# Altium footprint library MPU-6050.PcbLib: 3 footprints
Each footprint in its own frame and in the unit in brackets; x right, y up, seen from the top. Pads: shape width x height; smd on the part's side, far side on the other; paste and mask are expansions set on the pad; w line width, h text height; cw(c..) or ccw(c..) is an arc to the next point about the centre after c.
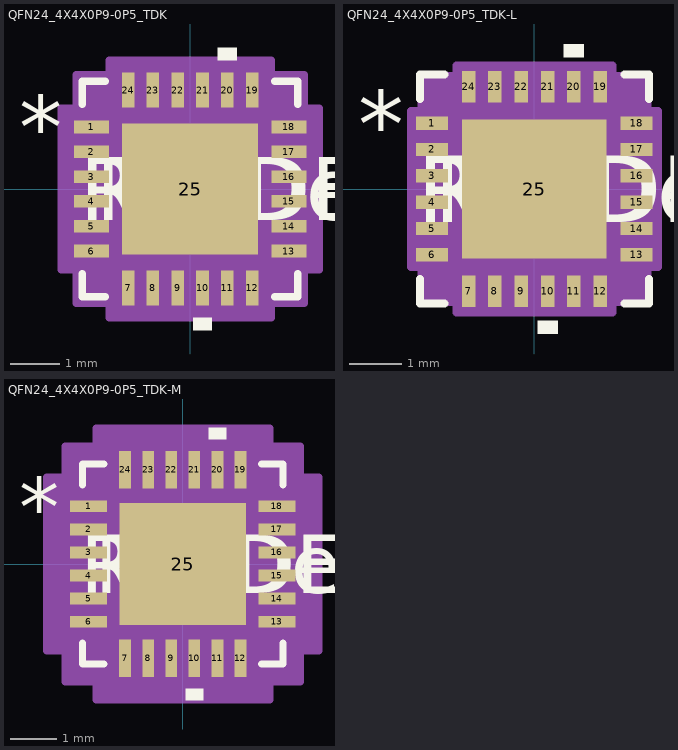
[diagram p0: the footprints below, top view; thin cyan lines are the x and y axes]

## QFN24_4X4X0P9-0P5_TDK [mil]
pads (25):
  rect 27.81x10.03 smd paste+0 mask+0: 1(-78.41,49.23) 2(-78.41,29.54) 3(-78.41,9.85) 4(-78.41,-9.85) 5(-78.41,-29.54) 6(-78.41,-49.23) 13(78.41,-49.23) 14(78.41,-29.54) 15(78.41,-9.85) 16(78.41,9.85) 17(78.41,29.54) 18(78.41,49.23)
  rect 10.03x27.81 smd paste+0 mask+0: 7(-49.23,-78.41) 8(-29.54,-78.41) 9(-9.85,-78.41) 10(9.85,-78.41) 11(29.54,-78.41) 12(49.23,-78.41) 19(49.23,78.41) 20(29.54,78.41) 21(9.85,78.41) 22(-9.85,78.41) 23(-29.54,78.41) 24(-49.23,78.41)
  rect 108x104 smd paste+0 mask+0: 25(0,0)
Top Overlay:
  region: 17.34,-102.31 2.35,-102.31 2.35,-112.31 17.34,-112.31
  region: 37.03,102.31 22.04,102.31 22.04,112.31 37.03,112.31
  lines w6: -85.5,-67.34 -85.5,-85.5 -67.34,-85.5 ; -85.5,67.34 -85.5,85.5 -67.34,85.5 ; 67.34,-85.5 85.5,-85.5 85.5,-67.34 ; 67.34,85.5 85.5,85.5 85.5,67.34
  text "*" at -135.81,24.23 h50
  text "RefDes" at -75,-25 h50
  text "REFDES" at -87.5,-25 h50
Mechanical 13:
  lines w1: -80.5,30.5 -30.5,80.5 ; -80.5,-55.23 -80.5,-43.23 ; -80.5,-55.23 -80.5,-43.23 ; -80.5,-55.23 -80.5,-55.23 ; -80.5,-43.23 -80.5,-43.23 ; -80.5,-35.53 -80.5,-23.54 ; -80.5,-35.53 -80.5,-23.54 ; -80.5,-35.53 -80.5,-35.53 ; -80.5,-23.54 -80.5,-23.54 ; -80.5,-15.85 -80.5,-3.85 ; -80.5,-15.85 -80.5,-3.85 ; -80.5,-15.85 -80.5,-15.85 ; -80.5,-3.85 -80.5,-3.85 ; -80.5,3.85 -80.5,15.85 ; -80.5,3.85 -80.5,15.85 ; -80.5,3.85 -80.5,3.85 ; -80.5,15.85 -80.5,15.85 ; -80.5,23.54 -80.5,35.53 ; -80.5,23.54 -80.5,35.53 ; -80.5,23.54 -80.5,23.54 ; -80.5,35.53 -80.5,35.53 ; -80.5,43.23 -80.5,55.23 ; -80.5,43.23 -80.5,55.23 ; -80.5,43.23 -80.5,43.23 ; -80.5,55.23 -80.5,55.23 ; -55.23,-80.5 -43.23,-80.5 ; -55.23,-80.5 -55.23,-80.5 ; -55.23,-80.5 -43.23,-80.5 ; -55.23,80.5 -43.23,80.5 ; -55.23,80.5 -43.23,80.5 ; -55.23,80.5 -55.23,80.5 ; -43.23,-80.5 -43.23,-80.5 ; -43.23,80.5 -43.23,80.5 ; -35.53,-80.5 -23.54,-80.5 ; -35.53,-80.5 -35.53,-80.5 ; -35.53,-80.5 -23.54,-80.5 ; -35.53,80.5 -23.54,80.5 ; -35.53,80.5 -23.54,80.5 ; -35.53,80.5 -35.53,80.5 ; -23.54,-80.5 -23.54,-80.5 ; -23.54,80.5 -23.54,80.5 ; -15.85,-80.5 -3.85,-80.5 ; -15.85,-80.5 -15.85,-80.5 ; -15.85,-80.5 -3.85,-80.5 ; -15.85,80.5 -3.85,80.5 ; -15.85,80.5 -3.85,80.5 ; -15.85,80.5 -15.85,80.5 ; -3.85,-80.5 -3.85,-80.5 ; -3.85,80.5 -3.85,80.5 ; 3.85,-80.5 15.85,-80.5 ; 3.85,-80.5 3.85,-80.5 ; 3.85,-80.5 15.85,-80.5 ; 3.85,80.5 15.85,80.5 ; 3.85,80.5 15.85,80.5 ; 3.85,80.5 3.85,80.5 ; 15.85,-80.5 15.85,-80.5 ; 15.85,80.5 15.85,80.5 ; 23.54,-80.5 35.53,-80.5 ; 23.54,-80.5 23.54,-80.5 ; 23.54,-80.5 35.53,-80.5 ; 23.54,80.5 35.53,80.5 ; 23.54,80.5 35.53,80.5 ; 23.54,80.5 23.54,80.5 ; 35.53,-80.5 35.53,-80.5 ; 35.53,80.5 35.53,80.5 ; 43.23,-80.5 55.23,-80.5 ; 43.23,-80.5 43.23,-80.5 ; 43.23,-80.5 55.23,-80.5 ; 43.23,80.5 55.23,80.5 ; 43.23,80.5 55.23,80.5 ; 43.23,80.5 43.23,80.5 ; 55.23,-80.5 55.23,-80.5 ; 55.23,80.5 55.23,80.5 ; 80.5,-55.23 80.5,-43.23 ; 80.5,-55.23 80.5,-55.23 ; 80.5,-55.23 80.5,-43.23 ; 80.5,-43.23 80.5,-43.23 ; 80.5,-35.53 80.5,-23.54 ; 80.5,-35.53 80.5,-35.53 ; 80.5,-35.53 80.5,-23.54 ; 80.5,-23.54 80.5,-23.54 ; 80.5,-15.85 80.5,-3.85 ; 80.5,-15.85 80.5,-15.85 ; 80.5,-15.85 80.5,-3.85 ; 80.5,-3.85 80.5,-3.85 ; 80.5,3.85 80.5,15.85 ; 80.5,3.85 80.5,3.85 ; 80.5,3.85 80.5,15.85 ; 80.5,15.85 80.5,15.85 ; 80.5,23.54 80.5,35.53 ; 80.5,23.54 80.5,23.54 ; 80.5,23.54 80.5,35.53 ; 80.5,35.53 80.5,35.53 ; 80.5,43.23 80.5,55.23 ; 80.5,43.23 80.5,43.23 ; 80.5,43.23 80.5,55.23 ; 80.5,55.23 80.5,55.23 ; -80.5,-80.5 80.5,-80.5 80.5,80.5 -80.5,80.5 -80.5,-80.5
  text "*" at -46,24.23 h50
  text "RefDes2" at -87.5,-25 h50
Mechanical 15:
  region: -64.24,-90.5 -90.5,-90.5 -90.5,-64.24 -102.31,-64.24 -102.31,64.24 -90.5,64.24 -90.5,90.5 -64.24,90.5 -64.24,102.31 64.24,102.31 64.24,90.5 90.5,90.5 90.5,64.24 102.31,64.24 102.31,-64.24 90.5,-64.24 90.5,-90.5 64.24,-90.5 64.24,-102.31 -64.24,-102.31
  lines w6: -102.31,-64.24 -90.5,-64.24 -90.5,-90.5 -64.24,-90.5 -64.24,-102.31 64.24,-102.31 64.24,-90.5 90.5,-90.5 90.5,-64.24 102.31,-64.24 102.31,64.24 90.5,64.24 90.5,90.5 64.24,90.5 64.24,102.31 -64.24,102.31 -64.24,90.5 -90.5,90.5 -90.5,64.24 -102.31,64.24 -102.31,-64.24
3D body "QFN24_4X4X0P9-0P5_TDK.step": height 37.09, standoff 0, extent -80.51,-80.51 80.51,80.51

## QFN24_4X4X0P9-0P5_TDK-L [mil]
pads (25):
  rect 23.87x10.03 smd paste+0 mask+0: 1(-76.44,49.23) 2(-76.44,29.54) 3(-76.44,9.85) 4(-76.44,-9.85) 5(-76.44,-29.54) 6(-76.44,-49.23) 13(76.44,-49.23) 14(76.44,-29.54) 15(76.44,-9.85) 16(76.44,9.85) 17(76.44,29.54) 18(76.44,49.23)
  rect 10.03x23.87 smd paste+0 mask+0: 7(-49.23,-76.44) 8(-29.54,-76.44) 9(-9.85,-76.44) 10(9.85,-76.44) 11(29.54,-76.44) 12(49.23,-76.44) 19(49.23,76.44) 20(29.54,76.44) 21(9.85,76.44) 22(-9.85,76.44) 23(-29.54,76.44) 24(-49.23,76.44)
  rect 108x104 smd paste+0 mask+0: 25(0,0)
Top Overlay:
  region: 17.34,-98.37 2.35,-98.37 2.35,-108.37 17.34,-108.37
  region: 37.03,98.37 22.04,98.37 22.04,108.37 37.03,108.37
  lines w6: -85.5,-67.34 -85.5,-85.5 -67.34,-85.5 ; -85.5,67.34 -85.5,85.5 -67.34,85.5 ; 67.34,-85.5 85.5,-85.5 85.5,-67.34 ; 67.34,85.5 85.5,85.5 85.5,67.34
  text "*" at -131.87,24.23 h50
  text "RefDes" at -75,-25 h50
  text "REFDES" at -87.5,-25 h50
Mechanical 13:
  lines w1: -80.5,30.5 -30.5,80.5 ; -80.5,-55.23 -80.5,-43.23 ; -80.5,-55.23 -80.5,-43.23 ; -80.5,-55.23 -80.5,-55.23 ; -80.5,-43.23 -80.5,-43.23 ; -80.5,-35.53 -80.5,-23.54 ; -80.5,-35.53 -80.5,-23.54 ; -80.5,-35.53 -80.5,-35.53 ; -80.5,-23.54 -80.5,-23.54 ; -80.5,-15.85 -80.5,-3.85 ; -80.5,-15.85 -80.5,-3.85 ; -80.5,-15.85 -80.5,-15.85 ; -80.5,-3.85 -80.5,-3.85 ; -80.5,3.85 -80.5,15.85 ; -80.5,3.85 -80.5,15.85 ; -80.5,3.85 -80.5,3.85 ; -80.5,15.85 -80.5,15.85 ; -80.5,23.54 -80.5,35.53 ; -80.5,23.54 -80.5,35.53 ; -80.5,23.54 -80.5,23.54 ; -80.5,35.53 -80.5,35.53 ; -80.5,43.23 -80.5,55.23 ; -80.5,43.23 -80.5,55.23 ; -80.5,43.23 -80.5,43.23 ; -80.5,55.23 -80.5,55.23 ; -55.23,-80.5 -43.23,-80.5 ; -55.23,-80.5 -55.23,-80.5 ; -55.23,-80.5 -43.23,-80.5 ; -55.23,80.5 -43.23,80.5 ; -55.23,80.5 -43.23,80.5 ; -55.23,80.5 -55.23,80.5 ; -43.23,-80.5 -43.23,-80.5 ; -43.23,80.5 -43.23,80.5 ; -35.53,-80.5 -23.54,-80.5 ; -35.53,-80.5 -35.53,-80.5 ; -35.53,-80.5 -23.54,-80.5 ; -35.53,80.5 -23.54,80.5 ; -35.53,80.5 -23.54,80.5 ; -35.53,80.5 -35.53,80.5 ; -23.54,-80.5 -23.54,-80.5 ; -23.54,80.5 -23.54,80.5 ; -15.85,-80.5 -3.85,-80.5 ; -15.85,-80.5 -15.85,-80.5 ; -15.85,-80.5 -3.85,-80.5 ; -15.85,80.5 -3.85,80.5 ; -15.85,80.5 -3.85,80.5 ; -15.85,80.5 -15.85,80.5 ; -3.85,-80.5 -3.85,-80.5 ; -3.85,80.5 -3.85,80.5 ; 3.85,-80.5 15.85,-80.5 ; 3.85,-80.5 3.85,-80.5 ; 3.85,-80.5 15.85,-80.5 ; 3.85,80.5 15.85,80.5 ; 3.85,80.5 15.85,80.5 ; 3.85,80.5 3.85,80.5 ; 15.85,-80.5 15.85,-80.5 ; 15.85,80.5 15.85,80.5 ; 23.54,-80.5 35.53,-80.5 ; 23.54,-80.5 23.54,-80.5 ; 23.54,-80.5 35.53,-80.5 ; 23.54,80.5 35.53,80.5 ; 23.54,80.5 35.53,80.5 ; 23.54,80.5 23.54,80.5 ; 35.53,-80.5 35.53,-80.5 ; 35.53,80.5 35.53,80.5 ; 43.23,-80.5 55.23,-80.5 ; 43.23,-80.5 43.23,-80.5 ; 43.23,-80.5 55.23,-80.5 ; 43.23,80.5 55.23,80.5 ; 43.23,80.5 55.23,80.5 ; 43.23,80.5 43.23,80.5 ; 55.23,-80.5 55.23,-80.5 ; 55.23,80.5 55.23,80.5 ; 80.5,-55.23 80.5,-43.23 ; 80.5,-55.23 80.5,-55.23 ; 80.5,-55.23 80.5,-43.23 ; 80.5,-43.23 80.5,-43.23 ; 80.5,-35.53 80.5,-23.54 ; 80.5,-35.53 80.5,-35.53 ; 80.5,-35.53 80.5,-23.54 ; 80.5,-23.54 80.5,-23.54 ; 80.5,-15.85 80.5,-3.85 ; 80.5,-15.85 80.5,-15.85 ; 80.5,-15.85 80.5,-3.85 ; 80.5,-3.85 80.5,-3.85 ; 80.5,3.85 80.5,15.85 ; 80.5,3.85 80.5,3.85 ; 80.5,3.85 80.5,15.85 ; 80.5,15.85 80.5,15.85 ; 80.5,23.54 80.5,35.53 ; 80.5,23.54 80.5,23.54 ; 80.5,23.54 80.5,35.53 ; 80.5,35.53 80.5,35.53 ; 80.5,43.23 80.5,55.23 ; 80.5,43.23 80.5,43.23 ; 80.5,43.23 80.5,55.23 ; 80.5,55.23 80.5,55.23 ; -80.5,-80.5 80.5,-80.5 80.5,80.5 -80.5,80.5 -80.5,-80.5
  text "*" at -46,24.23 h50
  text "RefDes2" at -87.5,-25 h50
Mechanical 15:
  region: -58.24,-84.5 -84.5,-84.5 -84.5,-58.24 -92.37,-58.24 -92.37,58.24 -84.5,58.24 -84.5,84.5 -58.24,84.5 -58.24,92.37 58.24,92.37 58.24,84.5 84.5,84.5 84.5,58.24 92.37,58.24 92.37,-58.24 84.5,-58.24 84.5,-84.5 58.24,-84.5 58.24,-92.37 -58.24,-92.37
  lines w6: -92.37,-58.24 -84.5,-58.24 -84.5,-84.5 -58.24,-84.5 -58.24,-92.37 58.24,-92.37 58.24,-84.5 84.5,-84.5 84.5,-58.24 92.37,-58.24 92.37,58.24 84.5,58.24 84.5,84.5 58.24,84.5 58.24,92.37 -58.24,92.37 -58.24,84.5 -84.5,84.5 -84.5,58.24 -92.37,58.24 -92.37,-58.24
3D body "QFN24_4X4X0P9-0P5_TDK.step": height 37.09, standoff 0, extent -80.51,-80.51 80.51,80.51

## QFN24_4X4X0P9-0P5_TDK-M [mil]
pads (25):
  rect 31.75x10.03 smd paste+0 mask+0: 1(-80.37,49.23) 2(-80.37,29.54) 3(-80.37,9.85) 4(-80.37,-9.85) 5(-80.37,-29.54) 6(-80.37,-49.23) 13(80.37,-49.23) 14(80.37,-29.54) 15(80.37,-9.85) 16(80.37,9.85) 17(80.37,29.54) 18(80.37,49.23)
  rect 10.03x31.75 smd paste+0 mask+0: 7(-49.23,-80.37) 8(-29.54,-80.37) 9(-9.85,-80.37) 10(9.85,-80.37) 11(29.54,-80.37) 12(49.23,-80.37) 19(49.23,80.37) 20(29.54,80.37) 21(9.85,80.37) 22(-9.85,80.37) 23(-29.54,80.37) 24(-49.23,80.37)
  rect 108x104 smd paste+0 mask+0: 25(0,0)
Top Overlay:
  region: 17.34,-106.25 2.35,-106.25 2.35,-116.25 17.34,-116.25
  region: 37.03,106.25 22.04,106.25 22.04,116.25 37.03,116.25
  lines w6: -85.5,-67.34 -85.5,-85.5 -67.34,-85.5 ; -85.5,67.34 -85.5,85.5 -67.34,85.5 ; 67.34,-85.5 85.5,-85.5 85.5,-67.34 ; 67.34,85.5 85.5,85.5 85.5,67.34
  text "*" at -139.75,24.23 h50
  text "RefDes" at -75,-25 h50
  text "REFDES" at -87.5,-25 h50
Mechanical 13:
  lines w1: -80.5,30.5 -30.5,80.5 ; -80.5,-55.23 -80.5,-43.23 ; -80.5,-55.23 -80.5,-43.23 ; -80.5,-55.23 -80.5,-55.23 ; -80.5,-43.23 -80.5,-43.23 ; -80.5,-35.53 -80.5,-23.54 ; -80.5,-35.53 -80.5,-23.54 ; -80.5,-35.53 -80.5,-35.53 ; -80.5,-23.54 -80.5,-23.54 ; -80.5,-15.85 -80.5,-3.85 ; -80.5,-15.85 -80.5,-3.85 ; -80.5,-15.85 -80.5,-15.85 ; -80.5,-3.85 -80.5,-3.85 ; -80.5,3.85 -80.5,15.85 ; -80.5,3.85 -80.5,15.85 ; -80.5,3.85 -80.5,3.85 ; -80.5,15.85 -80.5,15.85 ; -80.5,23.54 -80.5,35.53 ; -80.5,23.54 -80.5,35.53 ; -80.5,23.54 -80.5,23.54 ; -80.5,35.53 -80.5,35.53 ; -80.5,43.23 -80.5,55.23 ; -80.5,43.23 -80.5,55.23 ; -80.5,43.23 -80.5,43.23 ; -80.5,55.23 -80.5,55.23 ; -55.23,-80.5 -43.23,-80.5 ; -55.23,-80.5 -55.23,-80.5 ; -55.23,-80.5 -43.23,-80.5 ; -55.23,80.5 -43.23,80.5 ; -55.23,80.5 -43.23,80.5 ; -55.23,80.5 -55.23,80.5 ; -43.23,-80.5 -43.23,-80.5 ; -43.23,80.5 -43.23,80.5 ; -35.53,-80.5 -23.54,-80.5 ; -35.53,-80.5 -35.53,-80.5 ; -35.53,-80.5 -23.54,-80.5 ; -35.53,80.5 -23.54,80.5 ; -35.53,80.5 -23.54,80.5 ; -35.53,80.5 -35.53,80.5 ; -23.54,-80.5 -23.54,-80.5 ; -23.54,80.5 -23.54,80.5 ; -15.85,-80.5 -3.85,-80.5 ; -15.85,-80.5 -15.85,-80.5 ; -15.85,-80.5 -3.85,-80.5 ; -15.85,80.5 -3.85,80.5 ; -15.85,80.5 -3.85,80.5 ; -15.85,80.5 -15.85,80.5 ; -3.85,-80.5 -3.85,-80.5 ; -3.85,80.5 -3.85,80.5 ; 3.85,-80.5 15.85,-80.5 ; 3.85,-80.5 3.85,-80.5 ; 3.85,-80.5 15.85,-80.5 ; 3.85,80.5 15.85,80.5 ; 3.85,80.5 15.85,80.5 ; 3.85,80.5 3.85,80.5 ; 15.85,-80.5 15.85,-80.5 ; 15.85,80.5 15.85,80.5 ; 23.54,-80.5 35.53,-80.5 ; 23.54,-80.5 23.54,-80.5 ; 23.54,-80.5 35.53,-80.5 ; 23.54,80.5 35.53,80.5 ; 23.54,80.5 35.53,80.5 ; 23.54,80.5 23.54,80.5 ; 35.53,-80.5 35.53,-80.5 ; 35.53,80.5 35.53,80.5 ; 43.23,-80.5 55.23,-80.5 ; 43.23,-80.5 43.23,-80.5 ; 43.23,-80.5 55.23,-80.5 ; 43.23,80.5 55.23,80.5 ; 43.23,80.5 55.23,80.5 ; 43.23,80.5 43.23,80.5 ; 55.23,-80.5 55.23,-80.5 ; 55.23,80.5 55.23,80.5 ; 80.5,-55.23 80.5,-43.23 ; 80.5,-55.23 80.5,-55.23 ; 80.5,-55.23 80.5,-43.23 ; 80.5,-43.23 80.5,-43.23 ; 80.5,-35.53 80.5,-23.54 ; 80.5,-35.53 80.5,-35.53 ; 80.5,-35.53 80.5,-23.54 ; 80.5,-23.54 80.5,-23.54 ; 80.5,-15.85 80.5,-3.85 ; 80.5,-15.85 80.5,-15.85 ; 80.5,-15.85 80.5,-3.85 ; 80.5,-3.85 80.5,-3.85 ; 80.5,3.85 80.5,15.85 ; 80.5,3.85 80.5,3.85 ; 80.5,3.85 80.5,15.85 ; 80.5,15.85 80.5,15.85 ; 80.5,23.54 80.5,35.53 ; 80.5,23.54 80.5,23.54 ; 80.5,23.54 80.5,35.53 ; 80.5,35.53 80.5,35.53 ; 80.5,43.23 80.5,55.23 ; 80.5,43.23 80.5,43.23 ; 80.5,43.23 80.5,55.23 ; 80.5,55.23 80.5,55.23 ; -80.5,-80.5 80.5,-80.5 80.5,80.5 -80.5,80.5 -80.5,-80.5
  text "*" at -46,24.23 h50
  text "RefDes2" at -87.5,-25 h50
Mechanical 15:
  region: -74.24,-100.5 -100.5,-100.5 -100.5,-74.24 -116.25,-74.24 -116.25,74.24 -100.5,74.24 -100.5,100.5 -74.24,100.5 -74.24,116.25 74.24,116.25 74.24,100.5 100.5,100.5 100.5,74.24 116.25,74.24 116.25,-74.24 100.5,-74.24 100.5,-100.5 74.24,-100.5 74.24,-116.25 -74.24,-116.25
  lines w6: -116.25,-74.24 -100.5,-74.24 -100.5,-100.5 -74.24,-100.5 -74.24,-116.25 74.24,-116.25 74.24,-100.5 100.5,-100.5 100.5,-74.24 116.25,-74.24 116.25,74.24 100.5,74.24 100.5,100.5 74.24,100.5 74.24,116.25 -74.24,116.25 -74.24,100.5 -100.5,100.5 -100.5,74.24 -116.25,74.24 -116.25,-74.24
3D body "QFN24_4X4X0P9-0P5_TDK.step": height 37.09, standoff 0, extent -80.51,-80.51 80.51,80.51